# EAGLE library part XL7016 (library ic-power)
0.5A 150KHz 100V Buck DC to DC Converter
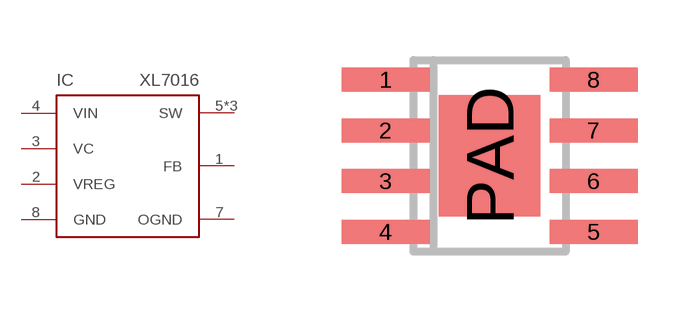
[diagram p13: symbol with the pads of SO-08-EP; footprint SO-08-EP]

Designator prefix IC

## XL7016  [SO-08-EP]
1  FB  pas
2  VREG  pas
3  VC  pas
4  VIN  pas
5  SW  pas
6  SW  pas
7  OGND  pas
8  GND  pas
PAD  SW  pas

## Footprint SO-08-EP (pad centres in mm)
Small Outline Narrow Plastic Gull Wing 150-mil body, package type SN
smd 2.2 x 0.6: 1 -2.6,1.905; 2 -2.6,0.635; 3 -2.6,-0.635; 4 -2.6,-1.905; 5 2.6,-1.905; 6 2.6,-0.635; 7 2.6,0.635; 8 2.6,1.905
smd 2.54 x 3.048: PAD 0,0